# Altium footprint library LINX_CONMHF1-SMD-G-T.PcbLib: 1 footprints
Each footprint in its own frame and in the unit in brackets; x right, y up, seen from the top. Pads: shape width x height; smd on the part's side, far side on the other; paste and mask are expansions set on the pad; w line width, h text height; cw(c..) or ccw(c..) is an arc to the next point about the centre after c.
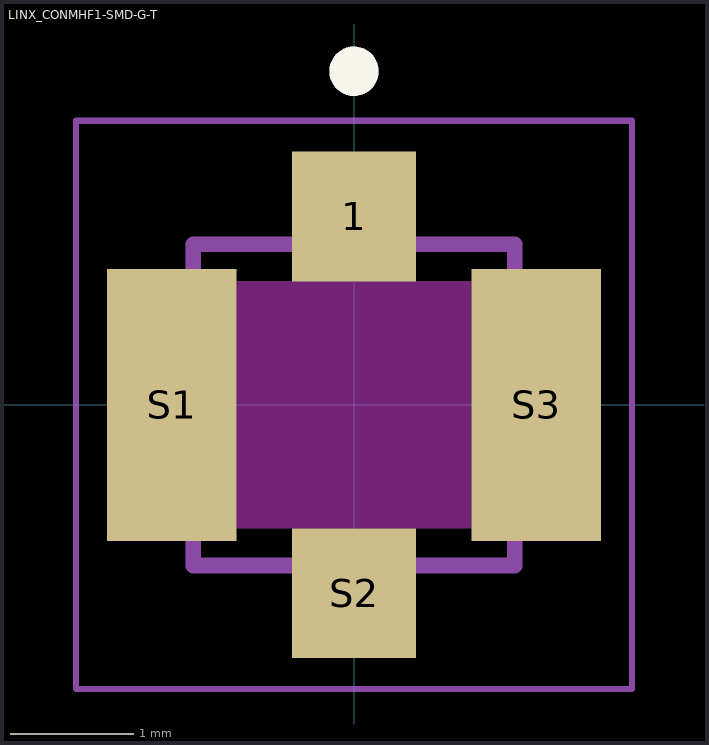
[diagram p0: the footprint, top view; thin cyan lines are the x and y axes]

## LINX_CONMHF1-SMD-G-T [mm]
pads (4):
  rect 1x1.05 smd: 1(0,1.525) S2(0,-1.525)
  rect 1.05x2.2 smd: S1(-1.475,0) S3(1.475,0)
Top Overlay:
  circle w0.2: c0,2.7 r0.1
Keep-Out Layer:
  region: 0.95,-1 -0.95,-1 -0.95,1 0.95,1
  region: 0.95,-1 -0.95,-1 -0.95,1 0.95,1
Assembly Top:
  circle w0.2: c0,2.7 r0.1
  lines w0.127: -1.3,-1.3 -1.3,1.3 1.3,1.3 1.3,-1.3 -1.3,-1.3
Courtyard Top:
  lines w0.05: -2.25,-2.3 -2.25,2.3 2.25,2.3 2.25,-2.3 -2.25,-2.3
3D body "step_temp.STEP": height 1.3, standoff -0.01, extent -1.5,-1.55 1.5,1.55